# Altium footprint library 430182043816.PcbLib: 3 footprints
Each footprint in its own frame and in the unit in brackets; x right, y up, seen from the top. Pads: shape width x height; smd on the part's side, far side on the other; paste and mask are expansions set on the pad; w line width, h text height; cw(c..) or ccw(c..) is an arc to the next point about the centre after c.
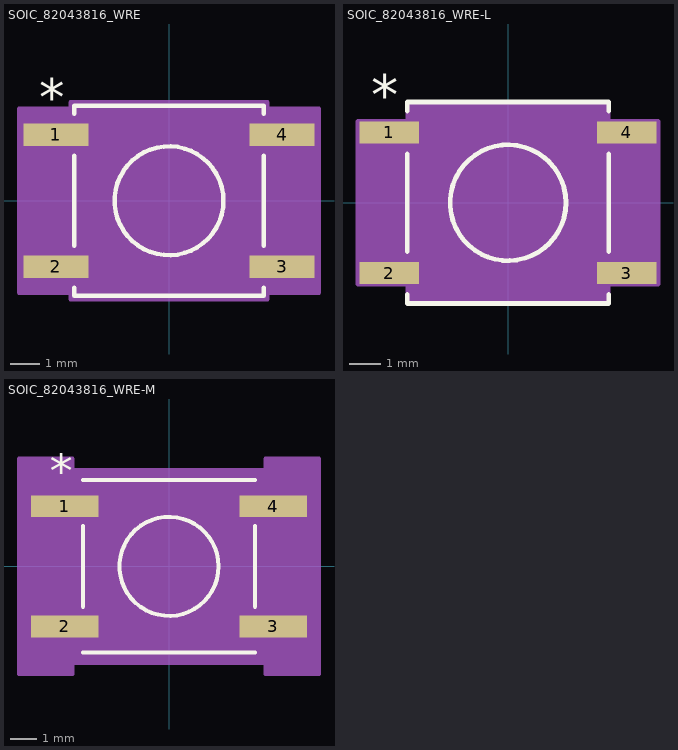
[diagram p0: the footprints below, top view; thin cyan lines are the x and y axes]

## SOIC_82043816_WRE [mil]
pads (4):
  rect 87x30 smd paste+0 mask+0: 1(-151.5,88.58) 2(-151.5,-88.58) 3(151.5,-88.58) 4(151.5,88.58)
Top Overlay:
  circle w6: c0,0 r73
  lines w6: -127,-116.68 -127,-127 127,-127 127,-116.68 ; -127,-60.48 -127,60.48 ; -127,116.68 -127,127 127,127 127,116.68 ; 127,-60.48 127,60.48
  text "*" at -174,113.58 h50
Mechanical 13:
  circle w0: c0,0 r73
  lines w1: -181,-102.58 -122,-102.58 -122,-74.58 -181,-74.58 -181,-102.58 ; -181,74.58 -122,74.58 -122,102.58 -181,102.58 -181,74.58 ; -122,-122 -122,122 122,122 122,-122 -122,-122 ; 122,-102.58 181,-102.58 181,-74.58 122,-74.58 122,-102.58 ; 122,74.58 181,74.58 181,102.58 122,102.58 122,74.58
  text "*" at -119.5,53.58 h50
Mechanical 15:
  region: 132,-132 -132,-132 -132,-123.58 -201,-123.58 -201,123.58 -132,123.58 -132,132 132,132 132,123.58 201,123.58 201,-123.58 132,-123.58
  lines w6: -201,-123.58 -201,123.58 -132,123.58 -132,132 132,132 132,123.58 201,123.58 201,-123.58 132,-123.58 132,-132 -132,-132 -132,-123.58 -201,-123.58
3D body "430182043816_Download_STP_430182043816_rev1.stp": height 169.29, standoff 0, extent -182.17,-122.05 172.17,122.05

## SOIC_82043816_WRE-L [mil]
pads (4):
  rect 75x28 smd paste+0 mask+0: 1(-149.5,88.58) 2(-149.5,-88.58) 3(149.5,-88.58) 4(149.5,88.58)
Top Overlay:
  circle w6: c0,0 r73
  lines w6: -127,-115.68 -127,-127 127,-127 127,-115.68 ; -127,-61.48 -127,61.48 ; -127,115.68 -127,127 127,127 127,115.68 ; 127,-61.48 127,61.48
  text "*" at -172,111.58 h50
Mechanical 13:
  circle w0: c0,0 r73
  lines w1: -181,-102.58 -181,-74.58 -122,-74.58 -122,-102.58 -181,-102.58 ; -181,74.58 -181,102.58 -122,102.58 -122,74.58 -181,74.58 ; -122,-122 122,-122 122,122 -122,122 -122,-122 ; 122,-102.58 122,-74.58 181,-74.58 181,-102.58 122,-102.58 ; 122,74.58 122,102.58 181,102.58 181,74.58 122,74.58
  text "*" at -119.5,51.58 h50
Mechanical 15:
  region: 126,-126 -126,-126 -126,-102.58 -189,-102.58 -189,102.58 -126,102.58 -126,126 126,126 126,102.58 189,102.58 189,-102.58 126,-102.58
  lines w6: -189,-102.58 -126,-102.58 -126,-126 126,-126 126,-102.58 189,-102.58 189,102.58 126,102.58 126,126 -126,126 -126,102.58 -189,102.58 -189,-102.58

## SOIC_82043816_WRE-M [mil]
pads (4):
  rect 99x32 smd paste+0 mask+0: 1(-153.5,88.58) 2(-153.5,-88.58) 3(153.5,-88.58) 4(153.5,88.58)
Top Overlay:
  circle w6: c0,0 r73
  lines w6: -127,-127 127,-127 ; -127,-59.48 -127,59.48 ; -127,127 127,127 ; 127,-59.48 127,59.48
  text "*" at -176,115.58 h50
Mechanical 13:
  circle w0: c0,0 r73
  lines w1: -181,-102.58 -181,-74.58 -122,-74.58 -122,-102.58 -181,-102.58 ; -181,74.58 -181,102.58 -122,102.58 -122,74.58 -181,74.58 ; -122,-122 122,-122 122,122 -122,122 -122,-122 ; 122,-102.58 122,-74.58 181,-74.58 181,-102.58 122,-102.58 ; 122,74.58 122,102.58 181,102.58 181,74.58 122,74.58
  text "*" at -119.5,55.58 h50
Mechanical 15:
  region: 142,-142 -142,-142 -142,-158.58 -221,-158.58 -221,158.58 -142,158.58 -142,142 142,142 142,158.58 221,158.58 221,-158.58 142,-158.58
  lines w6: -221,-158.58 -142,-158.58 -142,-142 142,-142 142,-158.58 221,-158.58 221,158.58 142,158.58 142,142 -142,142 -142,158.58 -221,158.58 -221,-158.58